# Altium schematic symbol library MAX6817.SchLib: 1 symbol
Pins are listed as number, name and electrical type; pins without a type are passive.

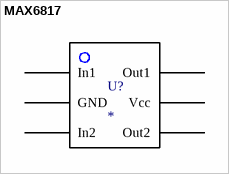
[diagram p0: symbol MAX6817]

## MAX6817
designator U?
PartNumber: MAX6817EUT+T; Manufacturer: Maxim Integrated; PartDescription: IC INTERFACE SPECIALIZED SOT23-6; Package Type: SOT 23-6; Supplier 1: Digi-Key; Supplier Part Number 1: MAX6817EUT+TCT-ND
footprint SOT23-6
pins: 1 In1, 2 GND, 3 In2, 4 Out2, 5 Vcc, 6 Out1